# Altium schematic symbol library CHK-I.SchLib: 4 symbols
Pins are listed as number, name and electrical type; pins without a type are passive.

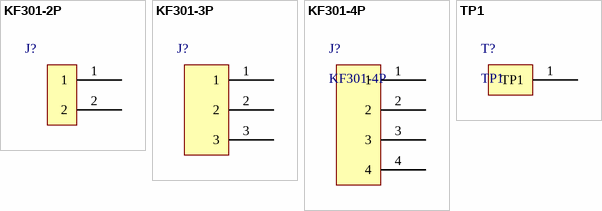
[diagram p0: symbols KF301-2P to TP1]

## KF301-2P
designator J?  (value not drawn)
footprint KF301-2P
pins: 1, 2

## KF301-3P
designator J?  (value not drawn)
footprint KF301-3P
pins: 1, 2, 3

## KF301-4P
designator J?
footprint KF301-4P
pins: 1, 2, 3, 4

## TP1
designator T?
footprint TP1 (Test Point 1)
pins: 1 TP1